# EAGLE library part STC3105 (library metasense)
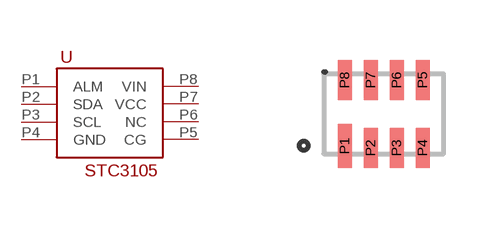
[diagram p4: symbol with the pads of TDFN-8-3X2MM; footprint TDFN-8-3X2MM]

Designator prefix U

## STC3105  [TDFN-8-3X2MM]
P1  ALM
P2  SDA
P3  SCL
P4  GND
P5  CG
P6  NC  nc
P7  VCC
P8  VIN

## Footprint TDFN-8-3X2MM (pad centres in mm)
TDFN - 8pin, 3mmx2mm
smd 0.35 x 1.1: P1 -0.975,-0.8
smd 0.35 x 1: P2 -0.325,-0.85; P3 0.325,-0.85; P4 0.975,-0.85; P5 0.975,0.85; P6 0.325,0.85; P7 -0.325,0.85; P8 -0.975,0.85